# Altium footprint library SatelliteDevBoard.PCBLIB: 12 footprints
Each footprint in its own frame and in the unit in brackets; x right, y up, seen from the top. Pads: shape width x height; smd on the part's side, far side on the other; paste and mask are expansions set on the pad; w line width, h text height; cw(c..) or ccw(c..) is an arc to the next point about the centre after c.
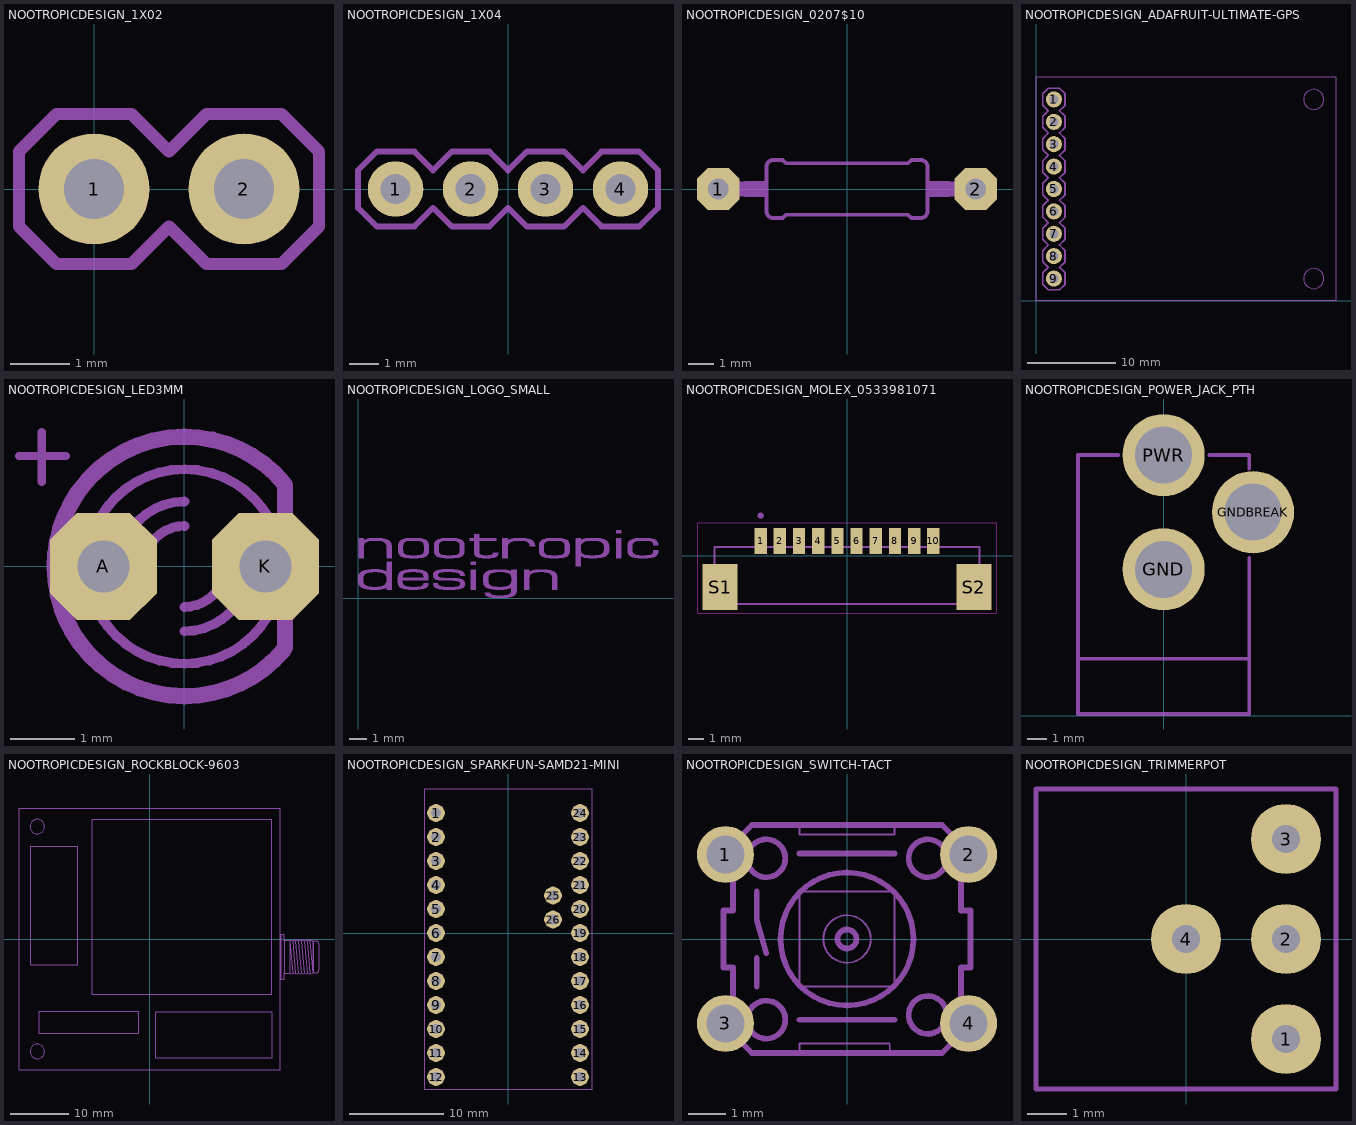
[diagram p0: the footprints below, top view; thin cyan lines are the x and y axes]

## NOOTROPICDESIGN_1X02 [mil]
pads (2):
  round 74 hole 40: 1(0,0) 2(100,0)
tDocu:
  region: 90,-10 90,10 110,10 110,-10
  region: -10,-10 -10,10 10,10 10,-10
tPlace:
  lines w8: -50,-25 -50,25 -25,50 25,50 50,25 75,50 125,50 150,25 150,-25 125,-50 75,-50 50,-25 25,-50 -25,-50 -50,-25

## NOOTROPICDESIGN_1X04 [mil]
pads (4):
  round 74 hole 40: 1(-150,0) 2(-50,0) 3(50,0) 4(150,0)
tDocu:
  region: 140,-10 140,10 160,10 160,-10
  region: 40,-10 40,10 60,10 60,-10
  region: -60,-10 -60,10 -40,10 -40,-10
  region: -160,-10 -160,10 -140,10 -140,-10
tPlace:
  lines w8: -200,-25 -200,25 -175,50 -125,50 -100,25 -75,50 -25,50 0,25 25,50 75,50 100,25 125,50 175,50 200,25 200,-25 175,-50 125,-50 100,-25 75,-50 25,-50 0,-25 -25,-50 -75,-50 -100,-25 -125,-50 -175,-50 -200,-25

## NOOTROPICDESIGN_0207$10 [mil]
pads (2):
  oct 66x66 / inner round 60.98 / far side oct 66x66 hole 32: 1(-200,0) 2(200,0)
tDocu:
  lines w24: -200,0 -160,0 ; 160,0 200,0
tPlace:
  region: 125,-12 125,12 159,12 159,-12
  region: -159,-12 -159,12 -125,12 -125,-12
  lines w6: -125,-35 ccw(c-115,-35) -115,-45 -100,-45 -95,-40 95,-40 100,-45 115,-45 ccw(c115,-35) 125,-35 125,35 ccw(c115,35) 115,45 100,45 95,40 -95,40 -100,45 -115,45 ccw(c-115,35) -125,35 -125,-35

## NOOTROPICDESIGN_ADAFRUIT-ULTIMATE-GPS [mil]
pads (9):
  round 72 hole 40: 1(80,900) 2(80,800) 3(80,700) 4(80,600) 5(80,500) 6(80,400) 7(80,300) 8(80,200) 9(80,100)
tDocu:
  region: 70,310 90,310 90,290 70,290
  region: 70,410 90,410 90,390 70,390
  region: 70,510 90,510 90,490 70,490
  region: 70,610 90,610 90,590 70,590
  region: 70,710 90,710 90,690 70,690
  region: 70,810 90,810 90,790 70,790
  region: 70,910 90,910 90,890 70,890
  region: 70,210 90,210 90,190 70,190
  region: 70,110 90,110 90,90 70,90
tPlace:
  circle w5: c1240,900 r45
  circle w5: c1240,100 r45
  lines w5: 0,0 1340,0 1340,1000 0,1000 0,0
  lines w8: 30,75 55,50 105,50 130,75 130,125 105,150 130,175 130,225 105,250 130,275 130,325 105,350 130,375 130,425 105,450 130,475 130,525 105,550 130,575 130,625 105,650 130,675 130,725 105,750 130,775 130,825 105,850 130,875 130,925 105,950 55,950 30,925 30,875 55,850 30,825 30,775 55,750 30,725 30,675 55,650 30,625 30,575 55,550 30,525 30,475 55,450 30,425 30,375 55,350 30,325 30,275 55,250 30,225 30,175 55,150 30,125 30,75
  text "Adafruit Ultimate GPS" at 300,450 h77.5

## NOOTROPICDESIGN_LED3MM [mil]
pads (2):
  oct 66x66 / inner round 60.98 / far side oct 66x66 hole 32: A(-50,0) K(50,0)
tDocu:
  lines w6: -46.09,38.41 ccw(c0,-0.01) -60,0 ccw(c0,-0.01) -44.85,-39.86 ; -40,0 cw(c0,0) 0,40 ; -25,0 cw(c0,0) 0,25 ; 0,-40 ccw(c0,0) 40,0 ; 0,-25 ccw(c0,0) 25,0 ; 45.56,39.05 cw(c0,0.01) 60,0 cw(c0,0.01) 46.09,-38.41
  lines w10: -70.44,37.93 ccw(c0,0.01) -80,0 ccw(c0,0) -68.13,-41.93 ; 62,-50 62,50
tPlace:
  lines w5: -102,68 -73,68 ; -88,52 -88,83
  lines w6: -48,36 cw(c0,0) 0,60 cw(c-0.01,0) 48.82,34.87 ; -47.36,-36.83 ccw(c0.01,0) 0,-60 ccw(c-0.01,0) 47.36,-36.83
  lines w10: -70.59,37.65 cw(c0,0) 0,80 cw(c0.01,0) 61.46,51.22 ; -69.46,-39.69 ccw(c0,0) 0,-80 ccw(c0,0) 61.07,-51.68

## NOOTROPICDESIGN_LOGO_SMALL [mil]
tPlace:
  drawing of 2925 lines, arcs and shapes, not listed

## NOOTROPICDESIGN_MOLEX_0533981071 [mil]
pads (12):
  rect 31.5x66.93 smd: 1(-221.46,38.39) 2(-172.24,38.39) 3(-123.03,38.39) 4(-73.82,38.39) 5(-24.61,38.39) 6(24.61,38.39) 7(73.82,38.39) 8(123.03,38.39) 9(172.24,38.39) 10(221.46,38.39)
  rect 90.55x118.11 smd: S1(-325.79,-79.72) S2(325.79,-79.72)
Top keep-out:
  lines w1.97: -382.87,-148.62 382.87,-148.62 382.87,85.63 -382.87,85.63 -382.87,-148.62
tDocu:
  lines w5: -339.57,-123.03 339.57,-123.03 339.57,22.64 -339.57,22.64 -339.57,-123.03
tPlace:
  circle w7.87: c-221.46,103.35 r3.94
  lines w5: -339.57,-14.76 -339.57,22.64 -250.98,22.64 ; -270.67,-123.03 24.61,-123.03 ; 4.92,22.64 93.5,22.64

## NOOTROPICDESIGN_POWER_JACK_PTH [mil]
pads (3):
  round 170 hole 118: GND(0,303.15) GNDBREAK(185.04,421.26) PWR(0,539.37)
tDocu:
  lines w8: -177.17,118.11 -177.17,3.94 177.17,3.94 177.17,118.11
tPlace:
  lines w8: -94.49,539.37 -177.17,539.37 -177.17,118.11 177.17,118.11 177.17,326.77 ; 94.49,539.37 177.17,539.37 177.17,511.81

## NOOTROPICDESIGN_ROCKBLOCK-9603 [mil]
tDocu:
  lines w5: -807.09,-177.17 -492.13,-177.17 -492.13,629.92 -807.09,629.92 -807.09,-177.17 ; -750.98,-637.8 -750.98,-492.13 -72.83,-493.11 -72.83,-637.8 -750.98,-637.8 ; -393.7,-374.02 -393.7,807.09 826.77,807.09 826.77,-374.02 -393.7,-374.02 ; 39.37,-807.09 826.77,-807.09 826.77,-492.13 39.37,-492.13 39.37,-807.09
  lines w8: 952.5,-232.5 912.5,-232.5 ; 952.5,-12.5 912.5,-12.5 ; 1127.5,-230 1107.5,-230 1107.5,-15 1127.5,-15 ; 1128.44,-229.78 ccw(c1128.44,-210.69) 1147.54,-210.69 ; 1128.44,-15.41 cw(c1128.44,-34.51) 1147.54,-34.51 ; 1147.54,-210.1 1147.54,-34.9 ; 912.5,-232.5 912.5,-12.5 ; 912.5,-232.5 912.5,-272.5 887.5,-272.5 887.5,27.5 912.5,27.5 912.5,-12.5 ; 948.72,-14.23 958.56,-4.39 968.41,-14.23 ; 948.72,-14.23 968.41,-230.77 ; 948.72,-14.23 948.72,-230.77 958.56,-240.61 968.41,-230.77 ; 968.41,-230.77 978.25,-240.61 988.09,-230.77 ; 968.41,-14.23 978.25,-4.39 988.09,-14.23 ; 968.41,-14.23 988.09,-230.77 ; 988.09,-230.77 997.93,-240.61 1007.78,-230.77 ; 988.09,-14.23 997.93,-4.39 1007.78,-14.23 ; 988.09,-14.23 1007.78,-230.77 ; 1007.78,-230.77 1017.62,-240.61 1027.46,-230.77 ; 1007.78,-14.23 1017.62,-4.39 1027.46,-14.23 ; 1007.78,-14.23 1027.46,-230.77 ; 1027.46,-230.77 1037.3,-240.61 1047.15,-230.77 ; 1027.46,-14.23 1037.3,-4.39 1047.15,-14.23 ; 1027.46,-14.23 1047.15,-230.77 ; 1047.15,-230.77 1056.99,-240.61 1066.83,-230.77 ; 1047.15,-14.23 1056.99,-4.39 1066.83,-14.23 ; 1047.15,-14.23 1066.83,-230.77 ; 1066.83,-230.77 1076.67,-240.61 1086.52,-230.77 ; 1066.83,-14.23 1076.67,-4.39 1086.52,-14.23 ; 1066.83,-14.23 1086.52,-230.77 ; 1086.52,-230.77 1096.36,-240.61 1106.2,-230.77 ; 1086.52,-14.23 1096.36,-4.39 1106.2,-14.23 1106.2,-230.77 ; 1086.52,-14.23 1106.2,-230.77
  text "supercap" at 157.48,-613.98 h42.5
  text "height = 10mm" at 157.48,-688.98 h42.5
  text "molex conn" at -628.94,-585.63 h42.5
  text "supercap" at -783.66,511.81 h42.5
  text "height = 10mm" at -708.66,511.81 h42.5
  text "Iridium module" at -137.8,527.76 h42.5
  text "height = 10.5mm" at -137.8,452.76 h42.5
tPlace:
  circle w5: c-761.81,761.81 r49.21
  circle w5: c-761.81,-761.81 r49.21
  lines w5: -885.83,-885.83 -885.83,885.83 885.83,885.83 885.83,-885.83 -885.83,-885.83

## NOOTROPICDESIGN_SPARKFUN-SAMD21-MINI [mil]
pads (26):
  round 74 hole 40: 1(-300,500) 2(-300,400) 3(-300,300) 4(-300,200) 5(-300,100) 6(-300,0) 7(-300,-100) 8(-300,-200) 9(-300,-300) 10(-300,-400) 11(-300,-500) 12(-300,-600) 13(300,-600) 14(300,-500) 15(300,-400) 16(300,-300) 17(300,-200) 18(300,-100) 19(300,0) 20(300,100) 21(300,200) 22(300,300) 23(300,400) 24(300,500) 25(187.5,156.25) 26(187.5,56.25)
tDocu:
  lines w5: -350,-650 -350,600 350,600 350,-650 -350,-650

## NOOTROPICDESIGN_SWITCH-TACT [mil]
pads (4):
  round 60 hole 40: 1(-128,89) 2(128,89) 3(-128,-89) 4(128,-89)
tDocu:
  circle w6: c-85,-85 r20
  circle w6: c85,-80 r20
  circle w6: c85,85 r20
  circle w6: c-85,85 r20
  circle w2: c0,0 r25
  lines w2: -50,-50 -50,50 50,50 50,-50 -50,-50
  lines w6: -120,-40 -120,-100 -100,-120 -85,-120 ; -120,40 -120,100 -100,120 -85,120 ; -95,-50 -95,-20 ; -95,50 -95,20 -85,-15 ; -50,-85 50,-85 ; -50,90 50,90 ; 85,-120 100,-120 120,-100 120,-40 ; 85,120 100,120 120,100 120,40
  text "1" at -170,65 h77.5
  text "2" at 140,60 h77.5
  text "3" at -180,-110 h77.5
  text "4" at 140,-110 h77.5
tPlace:
  circle w6: c0,0 r70
  circle w6: c0,0 r10
  lines w2: -50,-120 -50,-110 45,-110 45,-120 ; -50,120 -50,110 50,110 50,120
  lines w6: -120,-40 -120,-30 -130,-30 -130,30 -120,30 -120,40 ; -85,-120 -50,-120 45,-120 85,-120 ; -85,120 -50,120 50,120 85,120 ; 120,-40 120,-30 130,-30 130,30 120,30 120,40

## NOOTROPICDESIGN_TRIMMERPOT [mil]
pads (4):
  round 70 hole 28: 1(100,-100) 2(100,0) 3(100,100) 4(0,0)
tPlace:
  lines w5: -150,-150 -150,150 150,150 150,-150 -150,-150